# Altium integrated library 61300811121.IntLib: 2 symbols
Pins are listed as number, name and electrical type; pins without a type are passive.

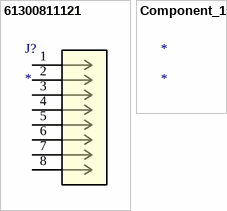
[diagram p0: symbols 61300811121 to Component_1]

## 61300811121
designator J?
No Description Available; Mfr_Name: Wurth Electronics; Type: Headers, Male Pins; RefDes: RefDes
footprint CONN8_61300811121_WRE
pins: 1, 2, 3, 4, 5, 6, 7, 8

## Component_1
designator *